# EAGLE library part LTC4151-1 (library ltc4151_uprava)
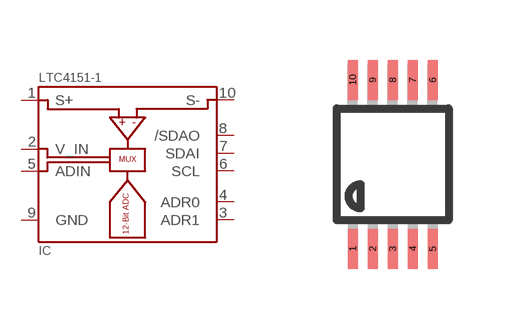
[diagram p1: symbol with the pads of MSOP10; footprint MSOP10]

Designator prefix IC

## LTC4151-1  [MSOP10]
1  S+
2  V_IN
3  ADR1
4  ADR0
5  ADIN
6  SCL
7  SDAI
8  /SDAO
9  GND
10  S-

## Footprint MSOP10 (pad centres in mm)
10-Lead Mini Small Outline Package [MSOP] (RM-10) Source: http://www.analog.com/UploadedFiles/Data_Sheets/35641221898805SSM2167_b.pdf COMPLIANT TO JEDEC STANDARDS MO-187BA
smd 0.25 x 1: 1 -1,-2.113; 2 -0.5,-2.113; 3 0,-2.113; 4 0.5,-2.113; 5 1,-2.113; 6 1,2.113; 7 0.5,2.113; 8 0,2.113; 9 -0.5,2.113; 10 -1,2.113